# Altium schematic symbol library SCH - POWER - LINEAR VREG - TI TPS7A20DQN.SchLib: 1 symbol
Pins are listed as number, name and electrical type; pins without a type are passive.

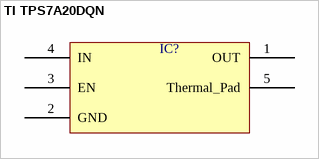
[diagram p0: symbol TI TPS7A20DQN]

## TI TPS7A20DQN
designator IC?  (value not drawn)
pins: 1 OUT, 2 GND, 3 EN, 4 IN, 5 Thermal_Pad